# Altium schematic symbol library GRM3195C1H104JA05D.SchLib: 1 symbol
Pins are listed as number, name and electrical type; pins without a type are passive.

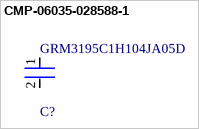
[diagram p0: symbol CMP-06035-028588-1]

## CMP-06035-028588-1
designator C?, comment GRM3195C1H104JA05D
Chip Multilayer Ceramic Capacitors for General Purpose, 1206, 0.10uF, C0G, 30ppm/°C, 5%, 50V
footprint FP-GRM319-0_15-IPC_C
footprint FP-GRM319-0_15-MFG
footprint FP-GRM319-0_15-IPC_B
footprint FP-GRM319-0_15-IPC_A
pins: 1, 2